# Altium schematic symbol library SN65HVD1473D.SchLib: 1 symbol
Pins are listed as number, name and electrical type; pins without a type are passive.

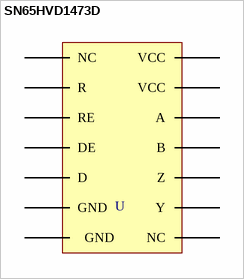
[diagram p0: symbol SN65HVD1473D]

## SN65HVD1473D
designator U  (value not drawn)
footprint SOIC127P600X175-14N
pins: 9 NC, 11   GND, 12 GND, 13 D, 14 DE, 15 RE, 16 VCC, 17 NC, 18 Y, 19 Z, 20 B, 21 A, 22 VCC, R